# EAGLE library part CD4011UBE (library CD4011UBE)
CMOS Quad 2-Input NAND Gate Source: Datasheet <http://uk.rs-online.com/web/p/products/7092968>
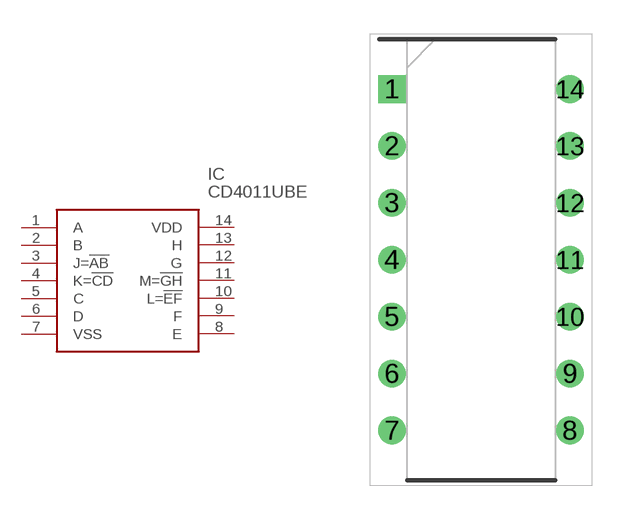
[diagram p0: symbol with the pads of DIP794W53P254L1930H508Q14N; footprint DIP794W53P254L1930H508Q14N]

Designator prefix IC

## CD4011UBE (Description: CMOS Quad 2-Input NAND Gate; Height: 5.08mm; Manufacturer_Name: Texas Instruments; Manufacturer_Part_Number: CD4011UBE; RS_Part_Number: 7092968; RS_Price-Stock: http://uk.rs-online.com/web/p/products/7092968)  [DIP794W53P254L1930H508Q14N]
1  A
2  B
3  J=!AB
4  K=!CD
5  C
6  D
7  VSS
8  E
9  F
10  L=!EF
11  M=!GH
12  G
13  H
14  VDD

## Footprint DIP794W53P254L1930H508Q14N (pad centres in mm)
14 pdip
drill 0.73 pad 1.13 square: 1 -3.97,7.62
drill 0.73 pad 1.13: 2 -3.97,5.08; 3 -3.97,2.54; 4 -3.97,0; 5 -3.97,-2.54; 6 -3.97,-5.08; 7 -3.97,-7.62; 8 3.97,-7.62; 9 3.97,-5.08; 10 3.97,-2.54; 11 3.97,0; 12 3.97,2.54; 13 3.97,5.08; 14 3.97,7.62